# Altium footprint library MainCyclomotion.PcbLib: 28 footprints (part 2 of 2)
Each footprint in its own frame and in the unit in brackets; x right, y up, seen from the top. Pads: shape width x height; smd on the part's side, far side on the other; paste and mask are expansions set on the pad; w line width, h text height; cw(c..) or ccw(c..) is an arc to the next point about the centre after c.
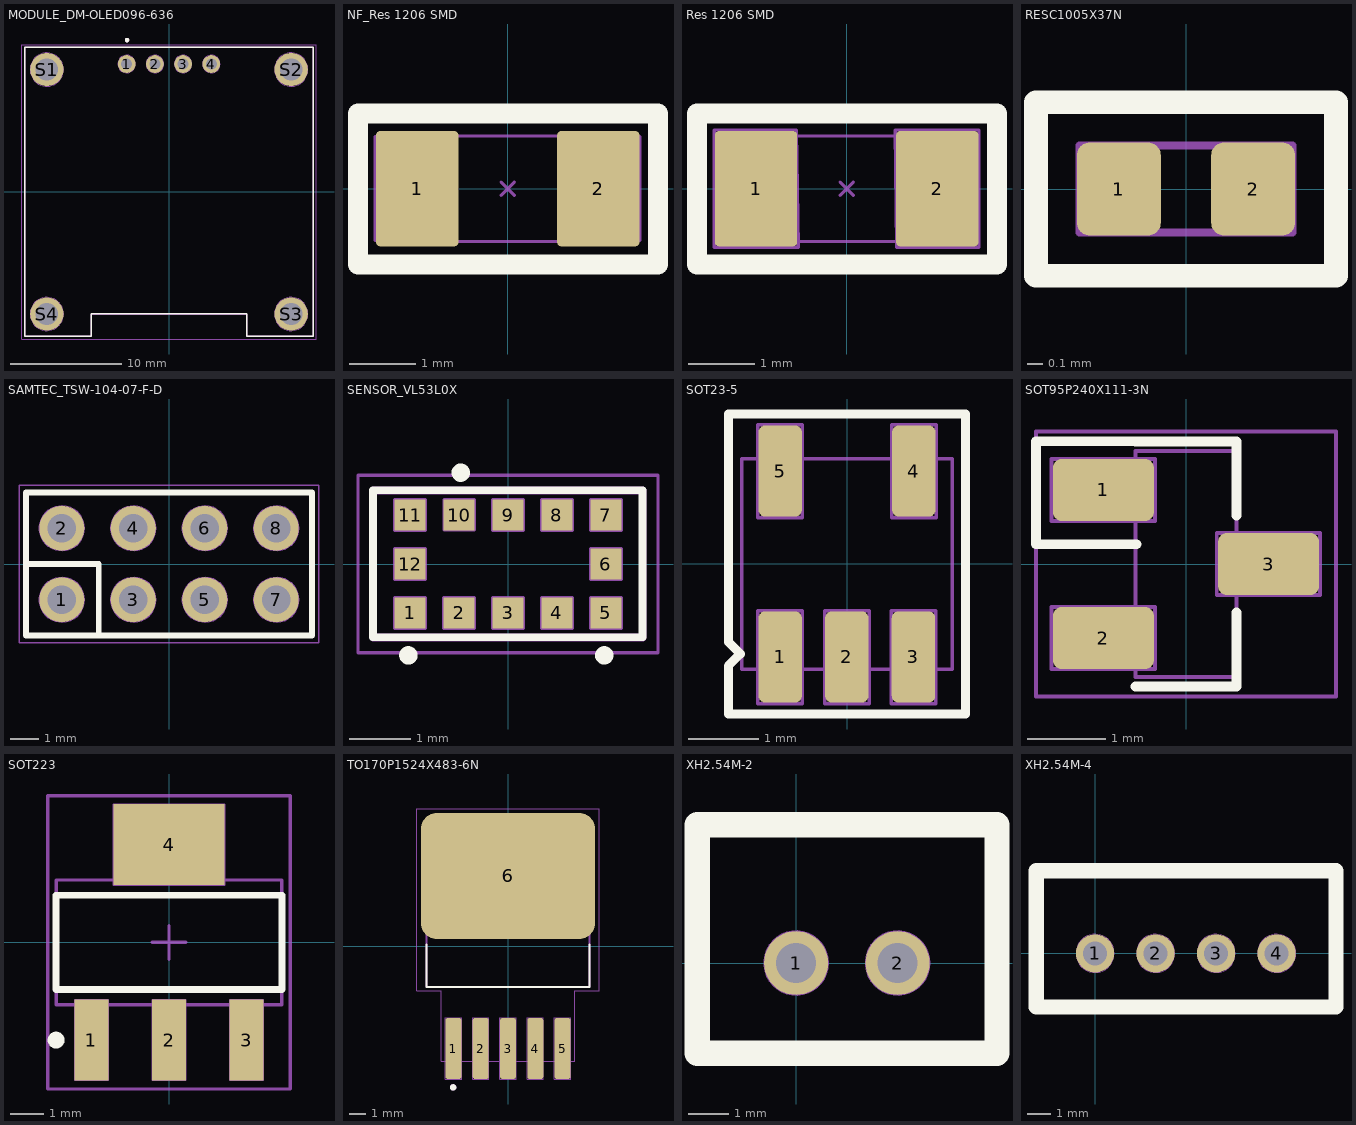
[diagram p1: the footprints below, top view; thin cyan lines are the x and y axes]

## MODULE_DM-OLED096-636 [mm]
height 11.3
pads (8):
  round 1.6 hole 1: 1(-3.81,11.5) 2(-1.27,11.5) 3(1.27,11.5) 4(3.81,11.5)
  round 3 hole 2: S1(-11,11) S2(11,11) S3(11,-11) S4(-11,-11)
Top Overlay:
  circle w0.2: c-3.777,13.653 r0.1
  lines w0.127: -13.006,-12.999 -13.006,13.001 12.994,13.001 12.994,-12.999 6.994,-12.999 6.994,-10.999 -7.006,-10.999 -7.006,-12.999 -13.006,-12.999
Mechanical 2:
  circle w0.05: c3.81,11.5 r0.787
  circle w0.05: c1.27,11.5 r0.787
  circle w0.05: c-1.27,11.5 r0.787
  circle w0.05: c-3.81,11.5 r0.787
  circle w0.05: c11,-11 r1.504
  circle w0.05: c-11,-11 r1.504
  circle w0.05: c11,11 r1.504
  circle w0.05: c-11,11 r1.504
  circle w0.05: c-3.771,13.652 r0.1
  lines w0.05: -13,-13 -13,13 13,13 13,-13 7,-13 7,-11 -7,-11 -7,-13 -13,-13
  text "4" at 3.427,11.098 h1
  text "1" at -3.989,11.073 h1
Mechanical 13:
  circle w0.2: c-3.771,13.652 r0.1
  lines w0.127: -13,-13 -13,13 13,13 13,-13 7,-13 7,-11 -7,-11 -7,-13 -13,-13
Mechanical 15:
  lines w0.05: -13.25,-13.25 -13.25,13.25 13.25,13.25 13.25,-13.25 -13.25,-13.25
3D body "step_temp.STEP": height 5.66, standoff -5.64, extent -13,-13 13,13

## NF_Res 1206 SMD [mm]
pads (2):
  rrect10% 1.25x1.75 smd mask+0.1: 1(-1.372,0) 2(1.375,0)
Top Overlay:
  lines w0.3: -2.27,-1.15 2.28,-1.15 2.28,1.14 -2.27,1.14 -2.27,-1.15
Mechanical 2:
  lines w0.05: -1.6,-0.8 1.6,-0.8 1.6,0.8 -1.6,0.8 -1.6,-0.787 -2.007,-0.787 -2.007,0.787 -1.6,0.787 ; -0.1,-0.1 0.1,0.1 ; -0.1,0.1 0.1,-0.1 ; 1.6,-0.787 2.007,-0.787 2.007,0.787 1.6,0.787

## Res 1206 SMD [mm]
pads (2):
  rrect10% 1.25x1.75 smd mask+0.1: 1(-1.375,0) 2(1.375,0)
Top Overlay:
  lines w0.3: -2.27,-1.15 -2.27,1.14 2.28,1.14 2.28,-1.15 -2.27,-1.15
Mechanical 2:
  lines w0.05: -0.1,-0.1 0.1,0.1 ; -0.1,0.1 0.1,-0.1 ; -2.007,-0.889 -2.007,0.889 -0.762,0.889 -0.737,-0.889 -2.007,-0.889 ; -1.6,-0.8 1.6,-0.8 1.6,0.8 -1.6,0.8 -1.6,-0.8 ; 0.736,0.89 2.006,0.89 2.006,-0.888 0.762,-0.888 0.736,0.89
3D body "User Library-SMD RESISTOR-11206.STEP": height 0.65, standoff 0.05, extent -1.6,-0.8 1.6,0.8

## RESC1005X37N [mm]
pads (2):
  rrect30% 0.54x0.6 smd: 1(-0.432,0) 2(0.432,0)
Top Overlay:
  lines w0.152: -0.965,-0.559 0.965,-0.559 0.965,0.559 -0.965,0.559 -0.965,-0.559
Mechanical 2:
  lines w0.05: -0.533,-0.279 -0.686,-0.279 -0.686,0.279 -0.533,0.279 ; 0.533,-0.279 0.686,-0.279 0.686,0.279 0.533,0.279 ; -0.53,-0.28 0.53,-0.28 0.53,0.28 -0.53,0.28 -0.53,-0.28
Top Courtyard:
  lines w0.05: -0.95,-0.55 0.95,-0.55 0.95,0.55 -0.95,0.55 -0.95,-0.55
3D body "step_temp.STEP": height 0.37, standoff 0, extent -0.5,-0.25 0.5,0.25

## SAMTEC_TSW-104-07-F-D [mm]
pads (8):
  round 1.6 hole 1: 1(-3.81,-1.27) 2(-3.81,1.27) 3(-1.27,-1.27) 4(-1.27,1.27) 5(1.27,-1.27) 6(1.27,1.27) 7(3.81,-1.27) 8(3.81,1.27)
Top Overlay:
  lines w0.2: -5.08,0 -2.5,0 -2.5,-2.54 ; -5.08,-2.54 -5.08,2.54 5.08,2.54 5.08,-2.54 -5.08,-2.54
Mechanical 2:
  circle w0.05: c-3.81,-1.27 r0.796
  circle w0.05: c-1.27,-1.27 r0.796
  circle w0.05: c1.27,-1.27 r0.796
  circle w0.05: c3.81,-1.27 r0.796
  circle w0.05: c3.81,1.27 r0.796
  circle w0.05: c1.27,1.27 r0.796
  circle w0.05: c-1.27,1.27 r0.796
  circle w0.05: c-3.81,1.27 r0.796
  lines w0.05: -5.33,-2.79 -5.33,2.79 5.33,2.79 5.33,-2.79 -5.33,-2.79
Mechanical 13:
  lines w0.1: -5.08,-2.54 -5.08,2.54 ; -5.08,-2.54 5.08,-2.54 ; -5.08,-2.54 -5.08,2.54 ; -5.08,2.54 5.08,2.54 ; -5.08,2.54 5.08,2.54 ; 5.08,-2.54 5.08,2.54 ; 5.08,-2.54 5.08,2.54
3D body "TSW-104-07-F-D.stp": height 8.38, standoff -2.54, extent -5.08,-2.54 5.08,2.54

## SENSOR_VL53L0X [mm]
pads (12):
  rect 0.5x0.5 smd: 1(-1.6,-0.8) 2(-0.8,-0.8) 3(0,-0.8) 4(0.8,-0.8) 5(1.6,-0.8) 6(1.6,0) 7(1.6,0.8) 8(0.8,0.8) 9(0,0.8) 10(-0.8,0.8) 11(-1.6,0.8) 12(-1.6,0)
Top Overlay:
  circle w0.15: c-1.628,-1.493 r0.075
  circle w0.15: c1.572,-1.493 r0.075
  circle w0.15: c-0.772,1.493 r0.075
  lines w0.127: -2.205,-1.197 -2.205,1.203 2.195,1.203 2.195,-1.197 -2.205,-1.197
Mechanical 2:
  lines w0.05: -2.45,-1.45 -2.45,1.45 2.45,1.45 2.45,-1.45 -2.45,-1.45 ; -1.85,-1.05 -1.85,-0.55 -1.35,-0.55 -1.35,-1.05 -1.85,-1.05 ; -1.85,-0.25 -1.85,0.25 -1.35,0.25 -1.35,-0.25 -1.85,-0.25 ; -1.85,0.55 -1.85,1.05 -1.35,1.05 -1.35,0.55 -1.85,0.55 ; -1.05,-1.05 -1.05,-0.55 -0.55,-0.55 -0.55,-1.05 -1.05,-1.05 ; -1.047,0.556 -1.047,1.056 -0.547,1.056 -0.547,0.556 -1.047,0.556 ; -0.25,-1.05 -0.25,-0.55 0.25,-0.55 0.25,-1.05 -0.25,-1.05 ; -0.25,0.55 -0.25,1.05 0.25,1.05 0.25,0.55 -0.25,0.55 ; 0.55,-1.05 0.55,-0.55 1.05,-0.55 1.05,-1.05 0.55,-1.05 ; 0.55,0.55 0.55,1.05 1.05,1.05 1.05,0.55 0.55,0.55 ; 1.35,-1.05 1.35,-0.55 1.85,-0.55 1.85,-1.05 1.35,-1.05 ; 1.35,-0.25 1.35,0.25 1.85,0.25 1.85,-0.25 1.35,-0.25 ; 1.35,0.55 1.35,1.05 1.85,1.05 1.85,0.55 1.35,0.55
  text "11" at -1.775,0.65 h0.3
  text "1" at -1.65,-0.925 h0.3
  text "5" at 1.5,-0.95 h0.3
  text "7" at 1.525,0.65 h0.3
Mechanical 13:
  lines w0.127: -2.2,-1.2 -2.2,1.2 2.2,1.2 2.2,-1.2 -2.2,-1.2
3D body "VL53L0X--3DModel-STEP-56544.STEP": height 0.68, standoff -0.37, extent -2.2,-1.2 2.2,1.2

## SOT23-5 [mm] "CASE: SOT"
height 1.1
pads (5):
  rrect30% 0.62x1.3 smd mask+0.076: 1(-0.953,-1.325) 2(-0.003,-1.325) 3(0.947,-1.325) 4(0.952,1.325) 5(-0.952,1.325)
Top Overlay:
  lines w0.127: -1.689,-2.138 1.689,-2.138 1.689,2.137 -1.689,2.137 -1.689,-1.111 -1.519,-1.281 -1.689,-1.452 -1.689,-2.138
Mechanical 2:
  lines w0.05: -1.5,-1.5 -1.5,1.5 1.5,1.5 1.5,-1.5 -1.5,-1.5 ; -1.271,-1.99 -1.271,-0.669 -0.636,-0.669 -0.636,-1.99 -1.271,-1.99 ; -1.27,0.66 -1.27,1.981 -0.635,1.981 -0.635,0.66 -1.27,0.66 ; -0.321,-1.99 -0.321,-0.669 0.314,-0.669 0.314,-1.99 -0.321,-1.99 ; 0.629,-1.99 0.629,-0.669 1.264,-0.669 1.264,-1.99 0.629,-1.99 ; 0.634,0.66 0.634,1.981 1.269,1.981 1.269,0.66 0.634,0.66
  text ".Designator" at 0.1,0.433 h1
3D body "User Library-SOT-23-5.STEP": height 1.41, standoff -0.05, extent -1.5,-1.5 1.5,1.5

## SOT95P240X111-3N [mm]
pads (3):
  rrect30% 1.3x0.8 smd: 1(-1.06,0.95) 2(-1.06,-0.95) 3(1.06,0)
Top Overlay:
  lines w0.127: -0.65,-1.57 0.65,-1.57 0.65,-0.62 ; -0.635,0.254 -1.925,0.254 -1.925,1.575 -0.65,1.57 0.65,1.57 0.65,0.62
Mechanical 2:
  lines w0.05: -1.725,-1.35 -1.725,-0.55 -0.4,-0.55 -0.4,-1.35 -1.725,-1.35 ; -1.725,0.55 -1.725,1.35 -0.4,1.35 -0.4,0.55 -1.725,0.55 ; -0.65,-1.45 -0.65,1.45 0.65,1.45 0.65,-1.45 -0.65,-1.45 ; 0.395,-0.4 0.395,0.4 1.72,0.4 1.72,-0.4 0.395,-0.4
Mechanical 15:
  lines w0.05: -1.925,-1.7 1.925,-1.7 1.925,1.7 -1.925,1.7 -1.925,-1.7
3D body "step_temp.STEP": height 1.11, standoff 0, extent -1.2,-1.45 1.2,1.45

## SOT223 [mm]
pads (4):
  rect 1x2.4 smd: 1(-2.3,-2.9) 2(0,-2.9) 3(2.3,-2.9)
  rect 3.3x2.4 smd: 4(0,2.9)
Top Overlay:
  circle w0.25: c-3.35,-2.9 r0.125
  lines w0.2: -3.35,-1.4 -3.35,1.4 3.35,1.4 3.35,-1.4 -3.35,-1.4
Mechanical 2:
  lines w0.05: -2.794,-4.089 -2.794,-1.702 -1.803,-1.702 -1.803,-4.089 -2.794,-4.089 ; -1.651,1.702 -1.651,4.089 1.651,4.089 1.651,1.702 -1.651,1.702 ; -0.494,-4.089 -0.494,-1.702 0.497,-1.702 0.497,-4.089 -0.494,-4.089 ; 1.806,-4.089 1.806,-1.702 2.797,-1.702 2.797,-4.089 1.806,-4.089
  lines w0.1: -3.35,-1.85 -3.35,1.85 3.35,1.85 3.35,-1.85 -3.35,-1.85
Mechanical 15:
  lines w0.1: -0.5,0 0.5,0 ; 0,-0.5 0,0.5 ; -3.6,-4.35 -3.6,4.35 3.6,4.35 3.6,-4.35 -3.6,-4.35
3D body "SW3DPS-SOT-223-DEFAULT.step": height 1.68, standoff 0, extent -3.25,-3.556 3.25,3.404

## TO170P1524X483-6N [mm]
height 4.83
pads (6):
  rrect30% 1x3.8 smd: 1(-3.4,-6.375) 2(-1.7,-6.375) 3(0,-6.375) 4(1.7,-6.375) 5(3.4,-6.375)
  rrect25% 10.84x7.88 smd paste-6: 6(0,4.375)
Top Overlay:
  circle w0.2: c-3.419,-8.797 r0.1
  lines w0.127: -5.08,0.115 -5.08,-2.528 5.08,-2.528 5.08,0.115
Top Paste:
  region: 5.15,7.765 5.15,6.245 3.9,6.245 3.9,7.765
  region: 5.15,2.505 5.15,0.985 3.9,0.985 3.9,2.505
  region: 5.15,5.135 5.15,3.615 3.9,3.615 3.9,5.135
  region: 3.34,7.765 3.34,6.245 2.09,6.245 2.09,7.765
  region: 3.34,2.505 3.34,0.985 2.09,0.985 2.09,2.505
  region: 3.34,5.135 3.34,3.615 2.09,3.615 2.09,5.135
  region: 1.53,7.765 1.53,6.245 0.28,6.245 0.28,7.765
  region: 1.53,2.505 1.53,0.985 0.28,0.985 0.28,2.505
  region: 1.53,5.135 1.53,3.615 0.28,3.615 0.28,5.135
  region: -3.9,7.765 -3.9,6.245 -5.15,6.245 -5.15,7.765
  region: -3.9,2.505 -3.9,0.985 -5.15,0.985 -5.15,2.505
  region: -3.9,5.135 -3.9,3.615 -5.15,3.615 -5.15,5.135
  region: -2.09,7.765 -2.09,6.245 -3.34,6.245 -3.34,7.765
  region: -2.09,2.505 -2.09,0.985 -3.34,0.985 -3.34,2.505
  region: -2.09,5.135 -2.09,3.615 -3.34,3.615 -3.34,5.135
  region: -0.28,7.765 -0.28,6.245 -1.53,6.245 -1.53,7.765
  region: -0.28,2.505 -0.28,0.985 -1.53,0.985 -1.53,2.505
  region: -0.28,5.135 -0.28,3.615 -1.53,3.615 -1.53,5.135
Mechanical 2:
  circle w0.2: c-3.419,-8.797 r0.1
  circle w0.2: c-3.419,-8.797 r0.1
  lines w0.05: -5.67,-2.778 -5.67,8.565 5.67,8.565 5.67,-2.778 4.145,-2.778 4.145,-7.163 -4.145,-7.163 -4.145,-2.778 -5.67,-2.778 ; -3.912,-8.28 -2.896,-8.28 -2.896,-4.47 -3.912,-4.445 -3.912,-8.28 ; -2.212,-8.28 -1.196,-8.28 -1.196,-4.47 -2.212,-4.445 -2.212,-8.28 ; -0.512,-8.28 0.504,-8.28 0.504,-4.47 -0.512,-4.445 -0.512,-8.28 ; 1.188,-8.28 2.204,-8.28 2.204,-4.47 1.188,-4.445 1.188,-8.28 ; 2.888,-8.28 3.904,-8.28 3.904,-4.47 2.888,-4.445 2.888,-8.28
  text "5" at 2.988,-7.063 h1
  text "1" at -3.583,-6.91 h1
  text ".Designator" at -0.433,0.125 h1
Mechanical 13:
  circle w0.2: c-3.419,-8.797 r0.1
  lines w0.127: -5.08,-2.528 -5.08,6.393 5.08,6.393 5.08,-2.528 -5.08,-2.528
3D body "step_temp.STEP": height 4.65, standoff -0.15, extent -5.08,-7.15 5.08,7.201

## XH2.54M-2 [mm]
pads (2):
  round 1.6 hole 1: 1(0,0) 2(2.54,0)
Top Overlay:
  lines w0.635: -2.473,-2.257 5.027,-2.257 5.027,3.463 -2.473,3.463 -2.473,-2.257
Mechanical 2:
  circle w0.05: c0,0 r0.798
  circle w0.05: c2.54,0 r0.798
  lines w0.05: -2.48,-2.26 5.02,-2.26 5.02,3.46 -2.48,3.46 -2.48,-2.26
  text "1" at -0.179,-0.433 h1
  text "2" at 2.234,-0.459 h1
3D body "XH2.54M-2.STEP": height 6.91, standoff -1.82, extent -2.48,-2.26 5.02,3.48

## XH2.54M-4 [mm]
pads (4):
  round 1.6 hole 1: 1(0,0) 2(2.54,0) 3(5.08,0) 4(7.62,0)
Top Overlay:
  lines w0.635: -2.469,-2.254 10.111,-2.254 10.111,3.466 -2.469,3.466 -2.469,-2.254
Mechanical 2:
  circle w0.05: c7.62,0 r0.803
  circle w0.05: c5.08,0 r0.803
  circle w0.05: c2.54,0 r0.803
  circle w0.05: c0,0 r0.803
  lines w0.05: -2.48,-2.26 -2.48,3.46 10.1,3.46 10.1,-2.26 -2.48,-2.26
  text "4" at 7.212,-0.459 h1
  text "1" at -0.154,-0.459 h1
  text ".Designator" at 0.1,0.433 h1
3D body "XH2.54M-4.STEP": height 6.91, standoff -1.82, extent -2.48,-2.26 10.1,3.48